# Altium footprint library Capacitor.PcbLib: 6 footprints
Each footprint in its own frame and in the unit in brackets; x right, y up, seen from the top. Pads: shape width x height; smd on the part's side, far side on the other; paste and mask are expansions set on the pad; w line width, h text height; cw(c..) or ccw(c..) is an arc to the next point about the centre after c.
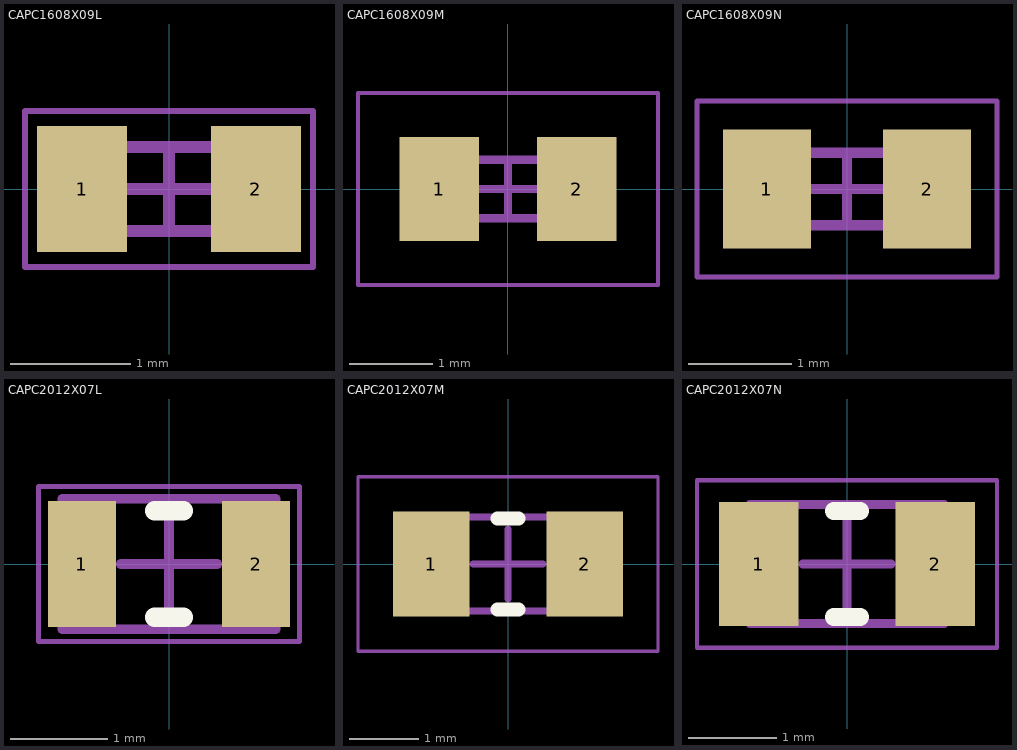
[diagram p0: the footprints below, top view; thin cyan lines are the x and y axes]

## CAPC1608X09L [mm] "Chip Capacitor, 2-Leads, Body 1.60x0.80mm, IPC High Density"
height 0.9
pads (2):
  rect 0.75x1.05 smd: 1(-0.725,0) 2(0.725,0)
Mechanical 13:
  lines w0.1: -0.75,-0.35 0.75,-0.35 0.75,0.35 -0.75,0.35 -0.75,-0.35
Mechanical 15:
  lines w0.05: -1.2,-0.65 1.2,-0.65 1.2,0.65 -1.2,0.65 -1.2,-0.65
  lines w0.1: -0.35,0 0.35,0 ; 0,-0.35 0,0.35
3D body "CAPC1608X09L.step": height 0.9, standoff 0, extent -0.75,-0.35 0.75,0.35

## CAPC1608X09M [mm] "Chip Capacitor, 2-Leads, Body 1.60x0.80mm, IPC Low Density"
height 0.9
pads (2):
  rect 0.95x1.25 smd: 1(-0.825,0) 2(0.825,0)
Mechanical 13:
  lines w0.1: -0.75,-0.35 0.75,-0.35 0.75,0.35 -0.75,0.35 -0.75,-0.35
Mechanical 15:
  lines w0.05: -1.8,-1.15 1.8,-1.15 1.8,1.15 -1.8,1.15 -1.8,-1.15
  lines w0.1: -0.35,0 0.35,0 ; 0,-0.35 0,0.35
3D body "CAPC1608X09M.step": height 0.9, standoff 0, extent -0.75,-0.35 0.75,0.35

## CAPC1608X09N [mm] "Chip Capacitor, 2-Leads, Body 1.60x0.80mm, IPC Medium Density"
height 0.9
pads (2):
  rect 0.85x1.15 smd: 1(-0.775,0) 2(0.775,0)
Mechanical 13:
  lines w0.1: -0.75,-0.35 -0.75,0.35 0.75,0.35 0.75,-0.35 -0.75,-0.35
Mechanical 15:
  lines w0.05: -1.45,-0.85 -1.45,0.85 1.45,0.85 1.45,-0.85 -1.45,-0.85
  lines w0.1: -0.35,0 0.35,0 ; 0,-0.35 0,0.35
3D body "CAPC1608X09N.step": height 0.9, standoff 0, extent -0.75,-0.35 0.75,0.35

## CAPC2012X07L [mm] "Chip Capacitor, 2-Leads, Body 2.00x1.25mm, IPC High Density"
height 0.7
pads (2):
  rect 0.7x1.3 smd: 1(-0.9,0) 2(0.9,0)
Top Overlay:
  lines w0.2: -0.15,-0.55 0.15,-0.55 ; -0.15,0.55 0.15,0.55
Mechanical 13:
  lines w0.1: -1.1,-0.675 1.1,-0.675 1.1,0.675 -1.1,0.675 -1.1,-0.675
Mechanical 15:
  lines w0.05: -1.35,-0.8 1.35,-0.8 1.35,0.8 -1.35,0.8 -1.35,-0.8
  lines w0.1: -0.5,0 0.5,0 ; 0,-0.5 0,0.5
3D body "CAPC2012X07L.step": height 0.7, standoff 0, extent -1.1,-0.675 1.1,0.675

## CAPC2012X07M [mm] "Chip Capacitor, 2-Leads, Body 2.00x1.25mm, IPC Low Density"
height 0.7
pads (2):
  rect 1.1x1.5 smd: 1(-1.1,0) 2(1.1,0)
Top Overlay:
  lines w0.2: -0.15,-0.65 0.15,-0.65 ; -0.15,0.65 0.15,0.65
Mechanical 13:
  lines w0.1: -1.1,-0.675 -1.1,0.675 1.1,0.675 1.1,-0.675 -1.1,-0.675
Mechanical 15:
  lines w0.05: -2.15,-1.25 -2.15,1.25 2.15,1.25 2.15,-1.25 -2.15,-1.25
  lines w0.1: -0.5,0 0.5,0 ; 0,-0.5 0,0.5
3D body "CAPC2012X07M.step": height 0.7, standoff 0, extent -1.1,-0.675 1.1,0.675

## CAPC2012X07N [mm] "Chip Capacitor, 2-Leads, Body 2.00x1.25mm, IPC Medium Density"
height 0.7
pads (2):
  rect 0.9x1.4 smd: 1(-1,0) 2(1,0)
Top Overlay:
  lines w0.2: -0.15,-0.6 0.15,-0.6 ; -0.15,0.6 0.15,0.6
Mechanical 13:
  lines w0.1: -1.1,-0.675 1.1,-0.675 1.1,0.675 -1.1,0.675 -1.1,-0.675
Mechanical 15:
  lines w0.05: -1.7,-0.95 1.7,-0.95 1.7,0.95 -1.7,0.95 -1.7,-0.95
  lines w0.1: -0.5,0 0.5,0 ; 0,-0.5 0,0.5
3D body "CAPC2012X07N.step": height 0.7, standoff 0, extent -1.1,-0.675 1.1,0.675